# EAGLE library part BTS721L1 (library PROFET - Infineon)
BTS721L1 Smart High-Side Power Switch, Four Channels, VBB 43V, R(ON) one-100mOhm SOIC127P1030X265-20N-1
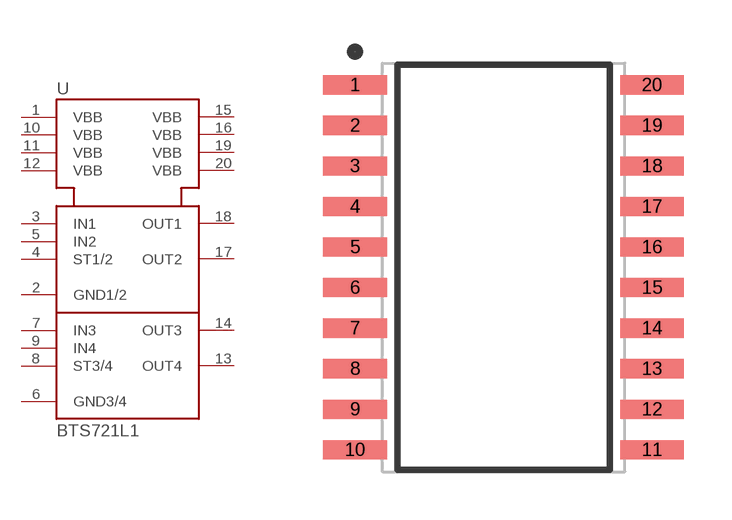
[diagram p49: symbol with the pads of SOIC127P1030X265-20N-1; footprint SOIC127P1030X265-20N-1]

Designator prefix U

## BTS721L1  [SOIC127P1030X265-20N-1]
1  VBB  pwr
2  GND1/2  pwr
3  IN1  in
4  ST1/2  oc
5  IN2  in
6  GND3/4  pwr
7  IN3  in
8  ST3/4  oc
9  IN4  in
10  VBB  pwr
11  VBB  pwr
12  VBB  pwr
13  OUT4  out
14  OUT3  out
15  VBB  pwr
16  VBB  pwr
17  OUT2  out
18  OUT1  out
19  VBB  pwr
20  VBB  pwr

## Footprint SOIC127P1030X265-20N-1 (pad centres in mm)
Original name SOIC127P1030X265-20N-1 Max Component Height - 2.65mm
smd 2 x 0.6: 1 -4.65,5.715; 2 -4.65,4.445; 3 -4.65,3.175; 4 -4.65,1.905; 5 -4.65,0.635; 6 -4.65,-0.635; 7 -4.65,-1.905; 8 -4.65,-3.175; 9 -4.65,-4.445; 10 -4.65,-5.715; 11 4.65,-5.715; 12 4.65,-4.445; 13 4.65,-3.175; 14 4.65,-1.905; 15 4.65,-0.635; 16 4.65,0.635; 17 4.65,1.905; 18 4.65,3.175; 19 4.65,4.445; 20 4.65,5.715